# EAGLE library part L6470 (library PowerIC)
STMicro's L6470 (a.k.a "dSPIN") is a 3A, 8-45V bipolar stepper motor driver. It has built-in overcurrent detection, undervoltage detection, overtemperature detection, stall detection, a 5-bit ADC, and a switch input that can be used for either user jog control or as a hard stop function. As if that weren't enough, it also features microstepping support (up to 128 microsteps per full step) and PWM drive voltage limiting.
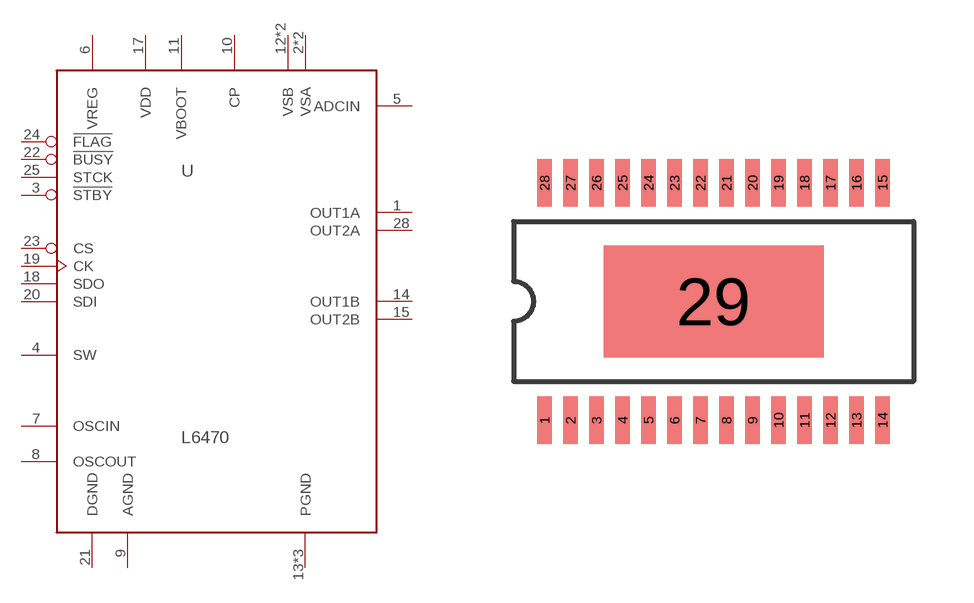
[diagram p0: symbol with the pads of HTSSOP28; footprint HTSSOP28]

Designator prefix -

## L6470H  [HTSSOP28]
1  OUT1A  pwr
2  VSA  pwr
3  !STBY  in
4  SW  in
5  ADCIN  pwr
6  VREG  pwr
7  OSCIN  in
8  OSCOUT  out
9  AGND  pwr
10  CP  pwr
11  VBOOT  pwr
12  VSB  pwr
13  PGND  pwr
14  OUT1B  pwr
15  OUT2B  pwr
16  VSB  pwr
17  VDD  pwr
18  SDO  out
19  CK  in
20  SDI  in
21  DGND  pwr
22  !BUSY  out
23  CS  in
24  !FLAG  out
25  STCK  in
26  VSA  pwr
27  PGND  pwr
28  OUT2A  pwr
29  PGND  pwr

## Footprint HTSSOP28 (pad centres in mm)
smd 0.36 x 1.19: 1 -4.225,-2.97; 2 -3.575,-2.97; 3 -2.925,-2.97; 4 -2.275,-2.97; 5 -1.625,-2.97; 6 -0.975,-2.97; 7 -0.325,-2.97; 8 0.325,-2.97; 9 0.975,-2.97; 10 1.625,-2.97; 11 2.275,-2.97; 12 2.925,-2.97; 13 3.575,-2.97; 14 4.225,-2.97; 15 4.225,2.97; 16 3.575,2.97; 17 2.925,2.97; 18 2.275,2.97; 19 1.625,2.97; 20 0.975,2.97; 21 0.325,2.97; 22 -0.325,2.97; 23 -0.975,2.97; 24 -1.625,2.97; 25 -2.275,2.97; 26 -2.925,2.97; 27 -3.575,2.97; 28 -4.225,2.97
smd 5.5 x 2.8: 29 0,0